# Altium schematic symbol library batteries.SchLib: 1 symbol
Pins are listed as number, name and electrical type; pins without a type are passive.

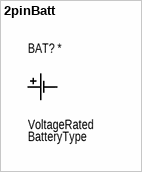
[diagram p0: symbol 2pinBatt]

## 2pinBatt
designator BAT?  Battery Type: BatteryType  Voltage Rated: VoltageRated
pins: NEG, POS